# Altium footprint library PASSIVE_SMD.PCBLIB: 238 footprints (part 15 of 15)
Each footprint in its own frame and in the unit in brackets; x right, y up, seen from the top. Pads: shape width x height; smd on the part's side, far side on the other; paste and mask are expansions set on the pad; w line width, h text height; cw(c..) or ccw(c..) is an arc to the next point about the centre after c.
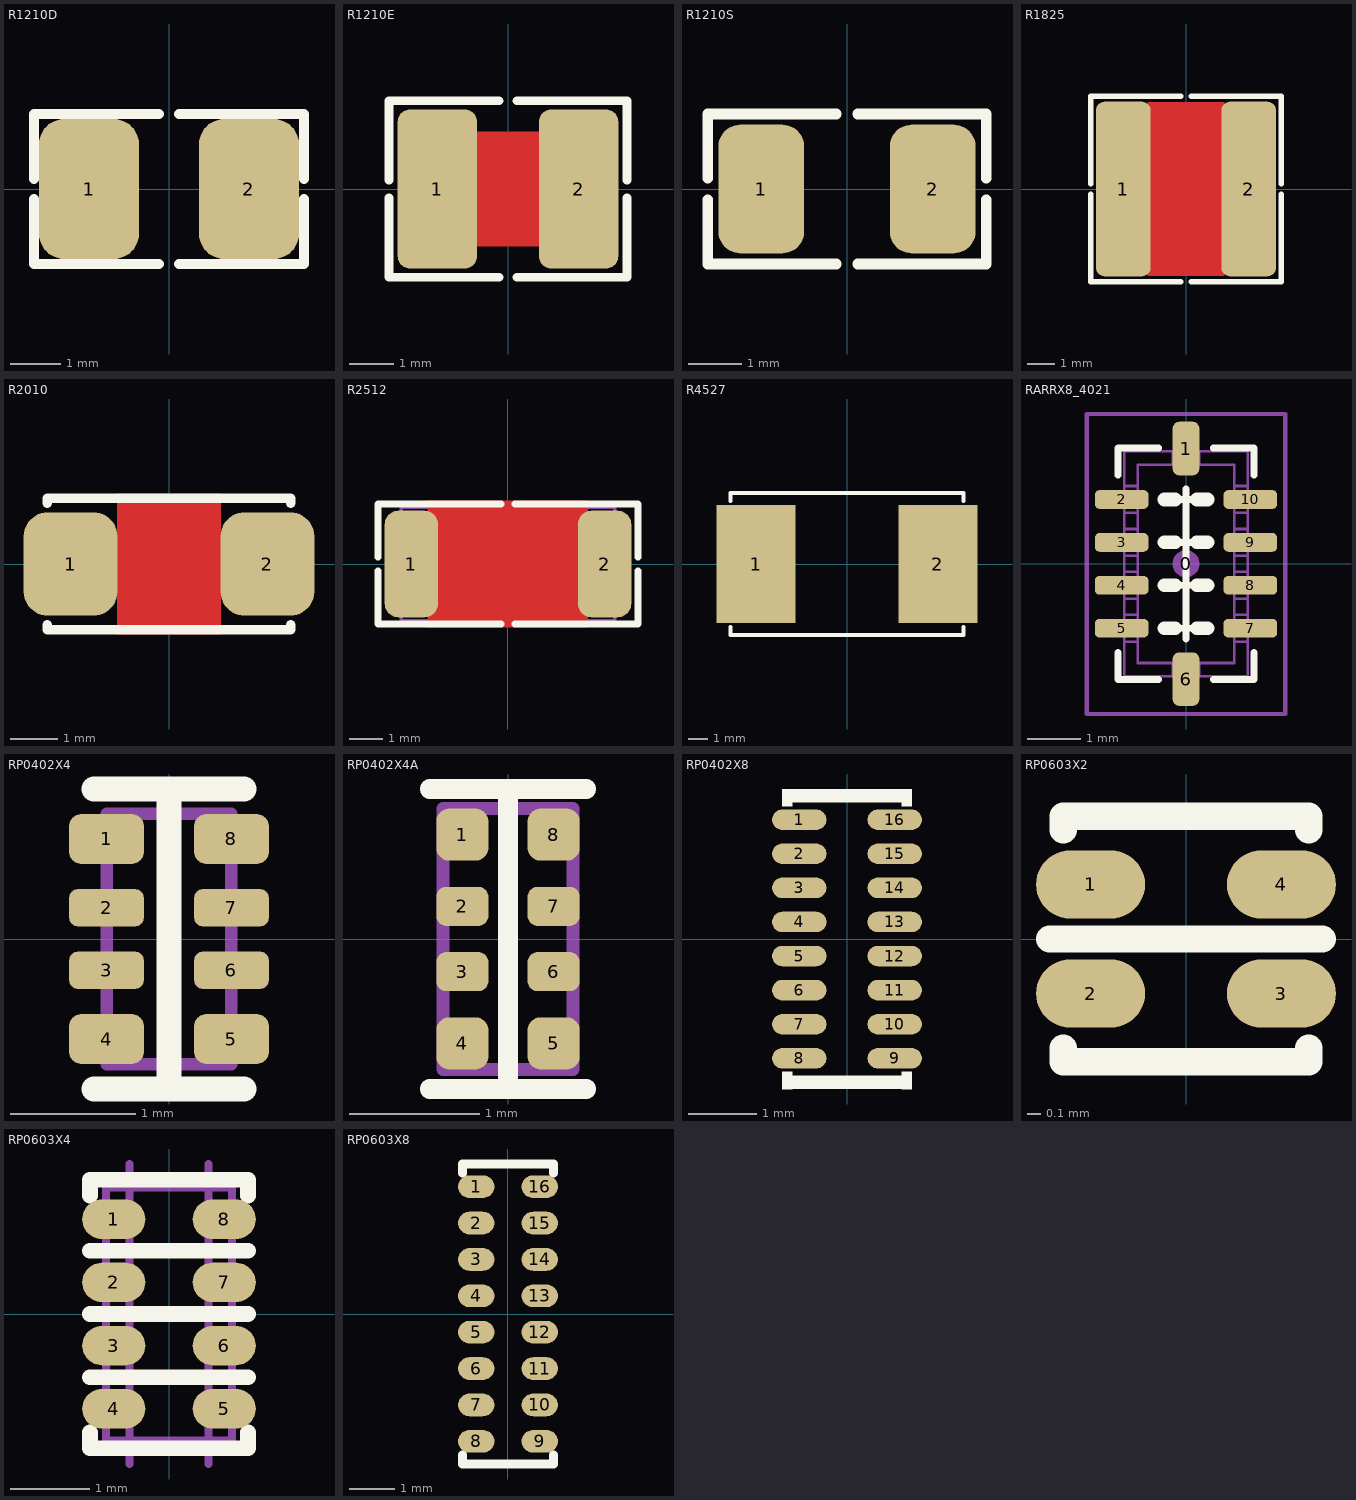
[diagram p14: the footprints below, top view; thin cyan lines are the x and y axes]

## R1210D [mm] "CHIP RESISTOR 1/2 WATT, Body 3.2x2.5mm,1210, 3225, SMD (SolderMask Defined)"
height 0.7
pads (2):
  rrect50% 2x2.8 smd paste-0.3 mask-0.2: 1(-1.6,0) 2(1.6,0)
Top Overlay:
  lines w0.2: -2.7,-0.2 -2.7,-1.5 -0.2,-1.5 ; -2.7,0.2 -2.7,1.5 -0.2,1.5 ; 0.2,-1.5 2.7,-1.5 2.7,-0.2 ; 0.2,1.5 2.7,1.5 2.7,0.2
3D body "RES 1210 (3225 metric).STEP": height 0.69, standoff -0.01, extent -1.7,-1.35 1.7,1.35

## R1210E [mm] "CHIP RESISTOR 1/2 WATT, EXPANDED PAD"
height 0.7
pads (2):
  rrect30% 1.8x3.6 smd paste-0.1 mask+0.075: 1(-1.6,0) 2(1.6,0)
Top Layer:
  pour cut-out: -0.8,1.3 -0.8,-1.3 0.8,-1.3 0.8,1.3
Top Overlay:
  lines w0.2: -2.7,-0.2 -2.7,-2 -0.2,-2 ; -2.7,0.2 -2.7,2 -0.2,2 ; 0.2,-2 2.7,-2 2.7,-0.2 ; 0.2,2 2.7,2 2.7,0.2
3D body "RES 1210 (3225 metric).STEP": height 0.69, standoff -0.01, extent -1.7,-1.35 1.7,1.35

## R1210S [mm] "CHIP RESISTOR 1/2 WATT, Body 3.2x2.5mm,1210, 3225, soldered"
height 0.7
pads (2):
  rrect50% 1.6x2.4 smd paste-0.1 mask+0.075: 1(-1.6,0) 2(1.6,0)
Top Overlay:
  lines w0.2: -2.6,-0.2 -2.6,-1.4 -0.2,-1.4 ; -2.6,0.2 -2.6,1.4 -0.2,1.4 ; 0.2,-1.4 2.6,-1.4 2.6,-0.2 ; 0.2,1.4 2.6,1.4 2.6,0.2
3D body "r1210_Res1.step": height 1.61, standoff 0, extent -2.47,-1.25 2.47,1.25

## R1825 [mm] "CHIP Resistor, 5.1x3.0mm, 4.6X6.4mm, 1825, 4565"
pads (2):
  rrect30% 2x6.4 smd: 1(-2.3,0) 2(2.3,0)
Top Layer:
  pour cut-out: 1.397,3.175 1.397,-3.175 -1.397,-3.175 -1.397,3.175
Top Overlay:
  lines w0.2: -3.5,-0.2 -3.5,-3.4 -0.2,-3.4 ; -3.5,0.2 -3.5,3.4 -0.2,3.4 ; 0.2,-3.4 3.5,-3.4 3.5,-0.2 ; 0.2,3.4 3.5,3.4 3.5,0.2
3D body "User Library-1825(4564M) Res.step": height 2.54, standoff 0, extent -2.81,-3.2 2.81,3.201

## R2010 [mm] "CHIP RESISTOR 3/4 WATT, 5.1x3mm, 2010, 5025"
pads (2):
  rrect50% 2x2.2 smd: 1(-2.1,0) 2(2.1,0)
Top Layer:
  pour cut-out: -1.1,1.5 1.1,1.5 1.1,-1.5 -1.1,-1.5
Top Overlay:
  lines w0.2: -2.6,-1.3 -2.6,-1.4 2.6,-1.4 2.6,-1.3 ; -2.6,1.3 -2.6,1.4 2.6,1.4 2.6,1.3
3D body "User Library-R_2010.step": height 0.6, standoff 0, extent -2.5,-1.25 2.5,1.25

## R2512 [mm] "CHIP RESISTOR 1 WATT, 6.4X3.2mm, 2512, 6432"
height 1
pads (2):
  rrect50% 1.6x3.2 smd: 1(-2.9,0) 2(2.9,0)
Top Layer:
  pour cut-out: -2.4,1.9 2.4,1.9 2.4,-1.9 -2.4,-1.9
Top Overlay:
  lines w0.2: -3.9,-0.2 -3.9,-1.8 -0.2,-1.8 ; -3.9,0.2 -3.9,1.8 -0.2,1.8 ; 0.2,-1.8 3.9,-1.8 3.9,-0.2 ; 0.2,1.8 3.9,1.8 3.9,0.2
Mechanical 13:
  lines w0.1: -3.2,-1.7 3.2,-1.7 3.2,1.7 -3.2,1.7 -3.2,-1.7
3D body "User Library-2512 SMD Resistor.step": height 1.6, standoff 0, extent -3.175,-1.5 3.175,1.5

## R4527 [mm] "CURRENT SENSE RESISTOR, 11.5x7.0X2.4mm, 4527, 11570"
height 2.4
pads (2):
  rect 4x6 smd: 1(-4.6,0) 2(4.6,0)
Top Overlay:
  lines w0.2: -5.9,-3.2 -5.9,-3.6 5.9,-3.6 5.9,-3.2 ; -5.9,3.2 -5.9,3.6 5.9,3.6 5.9,3.2
3D body "WSR5R2500FEA.stp": height 2.54, standoff 0, extent -5.78,-3.49 5.78,3.49

## RARRX8_4021 [mm] "Resistor ARRAY X8, SMD, 4.0x2.1mm, EXBE10"
height 0.65
pads (11):
  round 0.508 on Mech15: 0(0,0)
  rrect50% 0.5x1 smd: 1(0,2.15) 6(0,-2.15)
  rrect50% 1x0.35 smd: 2(-1.2,1.2) 3(-1.2,0.4) 4(-1.2,-0.4) 5(-1.2,-1.2) 7(1.2,-1.2) 8(1.2,-0.4) 9(1.2,0.4) 10(1.2,1.2)
Top Overlay:
  lines w0.127: -1.27,-1.651 -1.27,-2.159 -0.508,-2.159 ; -1.27,1.651 -1.27,2.159 -0.508,2.159 ; -0.2,-1.2 0.2,-1.2 ; -0.2,-0.4 0.2,-0.4 ; -0.2,0.4 0.2,0.4 ; -0.2,1.2 0.2,1.2 ; 0,-1.4 0,1.4 ; 0.508,-2.159 1.27,-2.159 1.27,-1.651 ; 0.508,2.159 1.27,2.159 1.27,1.651
  lines w0.254: -0.4,-1.2 -0.2,-1.2 ; -0.4,-0.4 -0.2,-0.4 ; -0.4,0.4 -0.2,0.4 ; -0.4,1.2 -0.2,1.2 ; 0.2,-1.2 0.4,-1.2 ; 0.2,-0.4 0.4,-0.4 ; 0.2,0.4 0.4,0.4 ; 0.2,1.2 0.4,1.2
Mechanical 13:
  lines w0.05: -1.149,-0.95 -1.15,-0.65 ; -1.149,-0.15 -1.15,0.15 ; -1.149,0.65 -1.15,0.95 ; -0.9,-1.45 -1.15,-1.45 ; -0.9,-0.95 -1.15,-0.95 -1.15,-1.05 cw(c-1.15,-1.2) -1.15,-1.35 -1.15,-1.45 ; -0.9,-0.65 -1.15,-0.65 ; -0.9,-0.15 -1.15,-0.15 -1.15,-0.25 cw(c-1.15,-0.4) -1.15,-0.55 -1.15,-0.65 ; -0.9,0.15 -1.15,0.15 ; -0.9,0.65 -1.15,0.65 -1.15,0.55 cw(c-1.15,0.4) -1.15,0.25 -1.15,0.15 ; -0.9,0.95 -1.15,0.95 ; -0.9,1.45 -1.15,1.45 ; -0.25,-1.85 -0.25,-2.1 ; -0.25,1.85 -0.25,2.1 ; 0.25,-1.85 0.25,-2.1 ; 0.25,1.85 0.25,2.1 ; 0.9,-1.45 1.15,-1.45 ; 0.9,-0.95 1.15,-0.95 1.15,-1.05 ccw(c1.15,-1.2) 1.15,-1.35 1.15,-1.45 ; 0.9,-0.65 1.15,-0.65 ; 0.9,-0.15 1.15,-0.15 1.15,-0.25 ccw(c1.15,-0.4) 1.15,-0.55 1.15,-0.65 ; 0.9,0.15 1.15,0.15 ; 0.9,0.65 1.15,0.65 1.15,0.55 ccw(c1.15,0.4) 1.15,0.25 1.15,0.15 ; 0.9,0.95 1.15,0.95 ; 0.9,1.45 1.15,1.45 ; 1.149,-0.95 1.15,-0.65 ; 1.149,-0.15 1.15,0.15 ; 1.149,0.65 1.15,0.95 ; -1.15,-1.45 -1.149,-2.099 -0.25,-2.1 ; -1.15,0.95 -1.15,1.05 ccw(c-1.15,1.2) -1.15,1.35 -1.15,1.45 ; -1.15,1.45 -1.149,2.099 -0.25,2.1 ; -0.25,-2.1 -0.15,-2.1 cw(c0,-2.1) 0.15,-2.1 0.25,-2.1 ; -0.25,2.1 -0.15,2.1 ccw(c0,2.1) 0.15,2.1 0.25,2.1 ; 0.25,-2.1 1.149,-2.099 1.15,-1.45 ; 0.25,2.1 1.149,2.099 1.15,1.45 ; 1.15,0.95 1.15,1.05 cw(c1.15,1.2) 1.15,1.35 1.15,1.45 ; -0.9,-1.85 0.9,-1.85 0.9,1.85 -0.9,1.85 -0.9,-1.85
Mechanical 15:
  lines w0.076: -1.85,-2.8 -1.85,2.794 1.85,2.794 1.85,-2.8 -1.85,-2.8
3D body "RES_ARRAY_EXBE.STEP": height 0.65, standoff 0, extent -1.15,-2.1 1.15,2.1

## RP0402X4 [mm] "RPACK, 0804, 0402X4, 100X50X4, 2.00x1.00mm"
height 0.4
pads (8):
  rrect50% 0.6x0.4 smd paste-0.05 mask+0.05: 1(-0.5,0.8) 4(-0.5,-0.8) 5(0.5,-0.8) 8(0.5,0.8)
  rrect50% 0.6x0.3 smd paste-0.05 mask+0.05: 2(-0.5,0.25) 3(-0.5,-0.25) 6(0.5,-0.25) 7(0.5,0.25)
Top Overlay:
  lines w0.2: -0.6,-1.2 0.6,-1.2 ; -0.6,1.2 0.6,1.2 ; 0,-1.1 0,1.1
Mechanical 13:
  lines w0.1: -0.5,-1 -0.5,1 0.5,1 0.5,-1 -0.5,-1
3D body "User Library-YC124-1.step": height 0.45, standoff 0, extent -0.5,-1 0.5,1

## RP0402X4A [mm] "RPACK, 0804, 0402X4, 100X50X4, 2.00x1.00mm"
height 0.4
pads (8):
  rrect50% 0.4x0.4 smd paste-0.05 mask+0.05: 1(-0.35,0.8) 4(-0.35,-0.8) 5(0.35,-0.8) 8(0.35,0.8)
  rrect50% 0.4x0.3 smd paste-0.05 mask+0.05: 2(-0.35,0.25) 3(-0.35,-0.25) 6(0.35,-0.25) 7(0.35,0.25)
Top Overlay:
  lines w0.15: -0.6,-1.15 0.6,-1.15 ; -0.6,1.15 0.6,1.15 ; 0,-1.1 0,1.1
Mechanical 13:
  lines w0.1: -0.5,-1 -0.5,1 0.5,1 0.5,-1 -0.5,-1
3D body "User Library-YC124-1.step": height 0.45, standoff 0, extent -0.5,-1 0.5,1

## RP0402X8 [mm] "RPACK, 0402X8, 4x1.6mm"
height 0.4
pads (16):
  oval 0.8x0.3 smd paste-0.05 mask+0.05: 1(-0.7,1.75) 2(-0.7,1.25) 3(-0.7,0.75) 4(-0.7,0.25) 5(-0.7,-0.25) 6(-0.7,-0.75) 7(-0.7,-1.25) 8(-0.7,-1.75) 9(0.7,-1.75) 10(0.7,-1.25) 11(0.7,-0.75) 12(0.7,-0.25) 13(0.7,0.25) 14(0.7,0.75) 15(0.7,1.25) 16(0.7,1.75)
Top Overlay:
  region: -0.8,-2.2 -0.8,-1.95 -0.95,-1.95 -0.95,-2.2
  region: 0.8,-2.2 0.8,-1.95 0.95,-1.95 0.95,-2.2
  region: 0.8,2.2 0.8,1.95 0.95,1.95 0.95,2.2
  region: -0.8,2.2 -0.8,1.95 -0.95,1.95 -0.95,2.2
  lines w0.2: -0.85,-2.1 0.85,-2.1 ; -0.85,2.1 0.85,2.1
3D body "User Library-YC248-1.step": height 0.45, standoff 0, extent -0.8,-2 0.8,2

## RP0603X2 [mm] "RPACK, 0603X2, 742C043, EXBV4V"
height 0.4
pads (4):
  oval 0.8x0.5 smd paste-0.05 mask+0.05: 1(-0.7,0.4) 2(-0.7,-0.4) 3(0.7,-0.4) 4(0.7,0.4)
Top Overlay:
  lines w0.2: -1,0 1,0 ; -0.9,-0.8 -0.9,-0.9 0.9,-0.9 0.9,-0.8 ; -0.9,0.8 -0.9,0.9 0.9,0.9 0.9,0.8
3D body "User Library-EXBV4V.step": height 0.53, standoff -0.03, extent -0.8,-0.8 0.8,0.8

## RP0603X4 [mm] "RPACK, 0603X4, 160X80X4 1206, 742C083, EXBV8V"
height 0.4
pads (8):
  oval 0.8x0.5 smd paste-0.05 mask+0.05: 1(-0.7,1.2) 2(-0.7,0.4) 3(-0.7,-0.4) 4(-0.7,-1.2) 5(0.7,-1.2) 6(0.7,-0.4) 7(0.7,0.4) 8(0.7,1.2)
Top Overlay:
  lines w0.2: -1,-1.5 -1,-1.7 1,-1.7 1,-1.5 ; -1,-0.8 1,-0.8 ; -1,0 1,0 ; -1,0.8 1,0.8 ; -1,1.5 -1,1.7 1,1.7 1,1.5
Mechanical 13:
  lines w0.1: -0.5,-1.9 -0.5,1.9 ; 0.5,-1.9 0.5,1.9 ; -0.8,-1.6 0.8,-1.6 0.8,1.6 -0.8,1.6 -0.8,-1.6
  text "0603X4" at -1.3,-2.6 h0.5
  text "4X0402" at -1.3,2.1 h0.5
3D body "User Library-Array-1206-4Way-Var1.STEP": height 0.5, standoff 0, extent -0.8,-1.6 0.8,1.6

## RP0603X8 [mm] "RPACK, 0603X8, 742C163, EXB2HV"
height 0.4
pads (16):
  oval 0.8x0.5 smd paste-0.05 mask+0.05: 1(-0.7,2.8) 2(-0.7,2) 3(-0.7,1.2) 4(-0.7,0.4) 5(-0.7,-0.4) 6(-0.7,-1.2) 7(-0.7,-2) 8(-0.7,-2.8) 9(0.7,-2.8) 10(0.7,-2) 11(0.7,-1.2) 12(0.7,-0.4) 13(0.7,0.4) 14(0.7,1.2) 15(0.7,2) 16(0.7,2.8)
Top Overlay:
  lines w0.2: -1,-3.1 -1,-3.3 1,-3.3 1,-3.1 ; -1,3.1 -1,3.3 1,3.3 1,3.1
3D body "User Library-742C163.step": height 0.53, standoff -0.03, extent -0.8,-3.2 0.8,3.2